# EAGLE library part ICM-20602 (library IMU)
High Performance 6-Axis MEMS MotionTracking™ Device
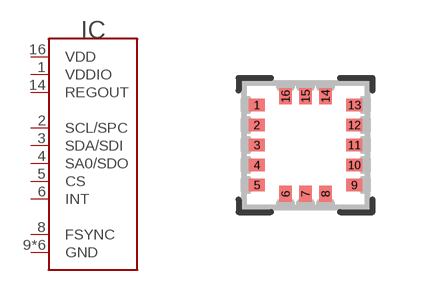
[diagram p7: symbol with the pads of LGA16_I62_IVS; footprint LGA16_I62_IVS]

Designator prefix IC

## ICM-20602- (MANF: TDK; MANF#: ICM-20602)  [LGA16_I62_IVS]
1  VDDIO  pwr
2  SCL/SPC  in
3  SDA/SDI
4  SA0/SDO  in
5  CS  in
6  INT  out
8  FSYNC  in
9  GND  pas
10  GND  pas
11  GND  pas
12  GND  pas
13  GND  pas
14  REGOUT  out
15  GND  pas
16  VDD  pwr

## Footprint LGA16_I62_IVS (pad centres in mm)
Part origin <https://app.ultralibrarian.com/details/a1bec896-838c-11ea-8c00-0ad2c9526b44/TDK-InvenSense/ICM-20602?uid=71111993&open=exports&exports=21&exports=39> 3D model <https://app.ultralibrarian.com/details/a1bec896-838c-11ea-8c00-0ad2c9526b44/TDK-InvenSense/ICM-20602?uid=71111993&open=exports&exports=21&exports=39>
smd 0.406 x 0.305: 1 -1.219,1; 2 -1.219,0.5; 3 -1.219,0; 4 -1.219,-0.5; 5 -1.219,-1; 9 1.219,-1; 10 1.219,-0.5; 11 1.219,0; 12 1.219,0.5; 13 1.219,1
smd 0.305 x 0.406: 6 -0.5,-1.219; 7 0,-1.219; 8 0.5,-1.219; 14 0.5,1.219; 15 0,1.219; 16 -0.5,1.219